# EAGLE library part TPS73733QDRBRQ1 (library LDO)
IC REG LINEAR 3.3V 1A 8SON Manufacturer's datasheet <http://www.ti.com/lit/ds/symlink/tps737-q1.pdf?HQS=TI-null-null-digikeymode-df-pf-null-wwe&ts=1591780548813&ref_url=http://www.ti.com/general/docs/suppproductinfo.tsp?distId%3D10&gotoUrl=http://www.ti.com/lit/gpn/tps737-q1>
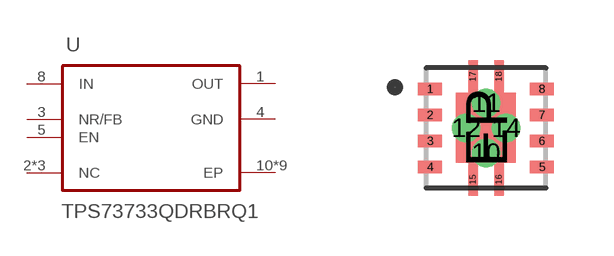
[diagram p6: symbol with the pads of 8-SON-EP; footprint 8-SON-EP]

Designator prefix U

## TPS73733QDRBRQ1 (CREATED_BY: PCBLayout.com; DIGIKEY_PARTNO: 296-24157-2-ND; MANUFACTURER: Texas Instruments; MPN: TPS73733QDRBRQ1; PACKAGE: 8-SON)  [8-SON-EP]
1  OUT  out
2  NC  pas
3  NR/FB  in
4  GND  pas
5  EN  in
6  NC  pas
7  NC  pas
8  IN  in
10  EP  pas
11  EP  pas
12  EP  pas
14  EP  pas
15  EP  pas
16  EP  pas
17  EP  pas
18  EP  pas
EP  EP  pas

## Footprint 8-SON-EP (pad centres in mm)
smd 0.6 x 0.31: 1 -1.4,0.975; 2 -1.4,0.325; 3 -1.4,-0.325; 4 -1.4,-0.975; 5 1.4,-0.975; 6 1.4,-0.325; 7 1.4,0.325; 8 1.4,0.975
drill 0.2 pad 0.4: 10 0,-0.625; 11 0,0.625; 12 -0.5,0; 14 0.5,0
smd 0.23 x 0.825: 15 -0.325,-1.285; 16 0.325,-1.285; 17 -0.325,1.285; 18 0.325,1.285
smd 1.5 x 1.75: EP 0,0